# Altium schematic symbol library TUF-55-35-100-ME.Schlib: 1 symbol
Pins are listed as number, name and electrical type; pins without a type are passive.

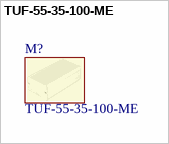
[diagram p0: symbol TUF-55-35-100-ME]

## TUF-55-35-100-ME
designator M?  (mechanical)